# EAGLE library part MCP2562-TH (library sb2030_logger)
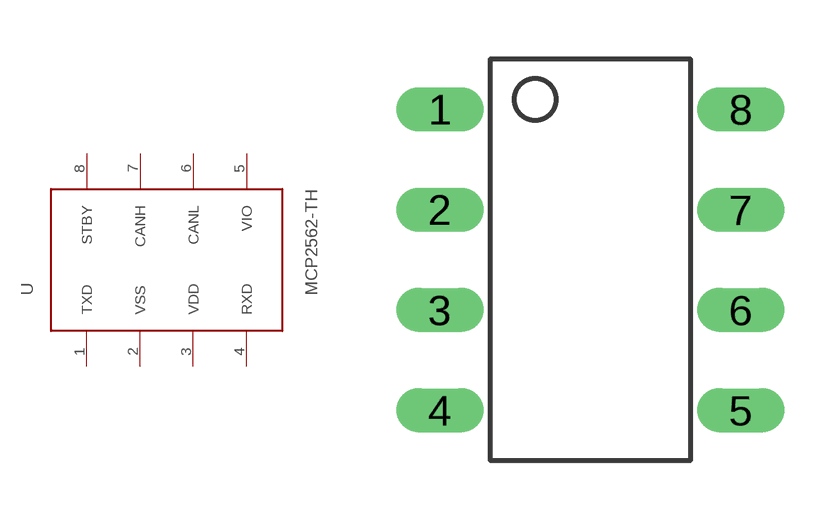
[diagram p3: symbol with the pads of DIP8; footprint DIP8]

Designator prefix -

## MCP2562-TH  [DIP8]
1  TXD
2  VSS
3  VDD
4  RXD
5  VIO
6  CANL
7  CANH
8  STBY

## Footprint DIP8 (pad centres in mm)
drill 0.6 long: 1 -3.81,3.81; 2 -3.81,1.27; 3 -3.81,-1.27; 4 -3.81,-3.81; 5 3.81,-3.81; 6 3.81,-1.27; 7 3.81,1.27; 8 3.81,3.81